# Altium schematic symbol library 元件库原理图.SchLib: 43 symbols
Pins are listed as number, name and electrical type; pins without a type are passive.

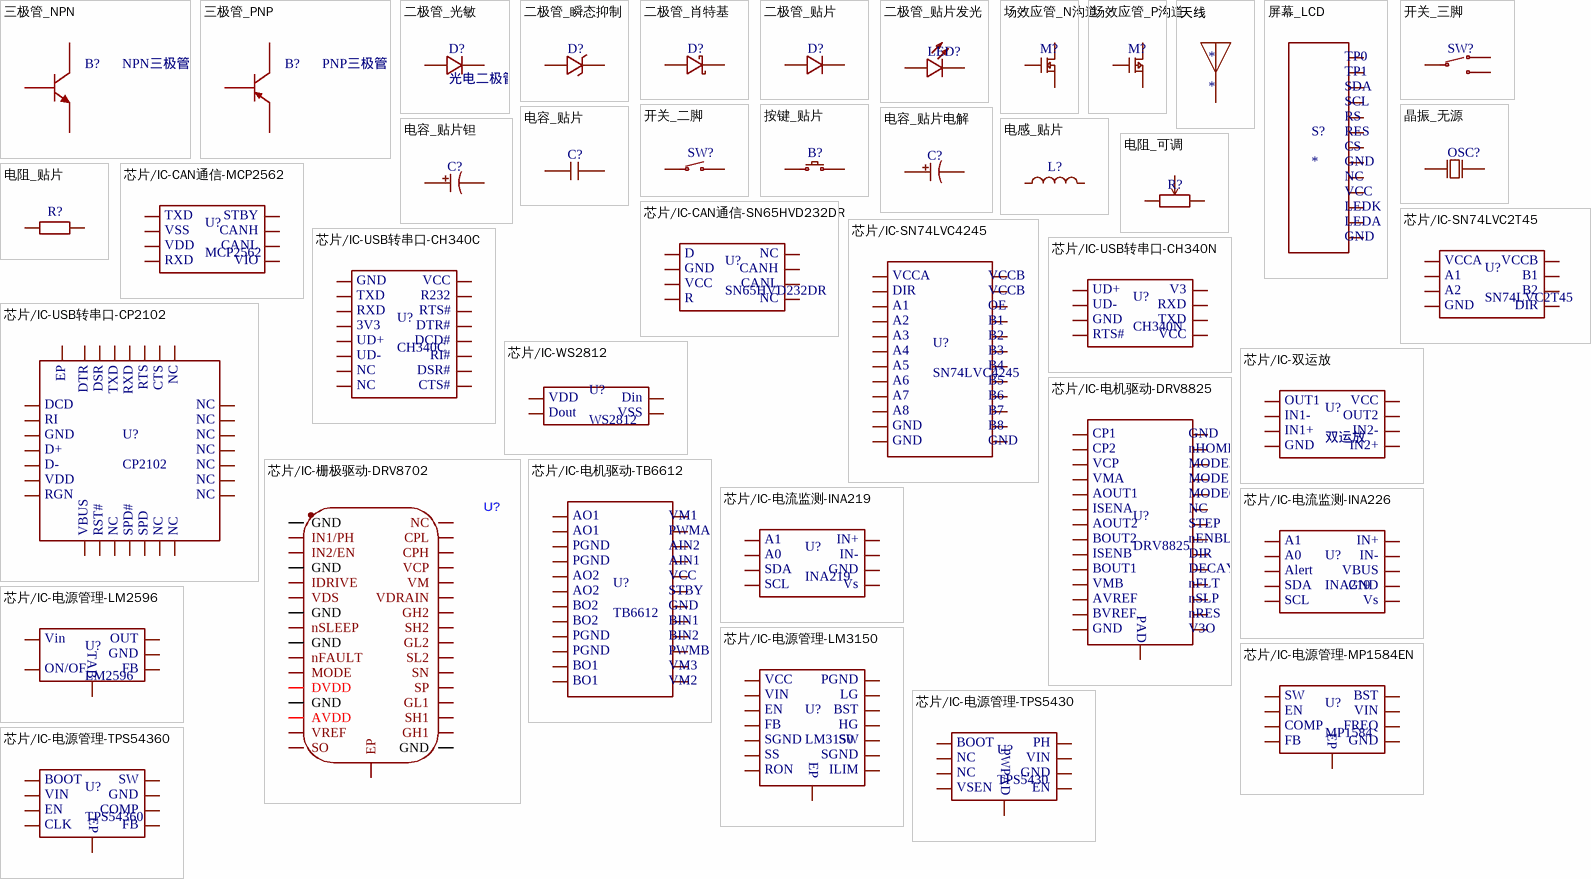
[diagram p0: symbols 三极管_NPN to 芯片/IC-电源管理-TPS54360]

## 三极管_NPN
designator B?, comment NPN三极管
footprint SOT-23
pins: 1 B, 2 E, 3 C

## 三极管_PNP
designator B?, comment PNP三极管
footprint SOT-23
pins: 1 B, 2 E, 3 C

## 二极管_光敏
designator D?, comment 光电二极管
footprint *LED_5mm
footprint *LED_3mm
pins: 1, 2

## 二极管_瞬态抑制
designator D?, comment 瞬态抑制二极管  (value not drawn)
footprint SMA (适用于SS14等肖特基二极管的封装，带横线的一端为负极)
footprint SMB (适用于SS24等肖特基二极管的封装，带横线的一端为负极)
footprint SMC (适用于SS34等肖特基二极管的封装，带横线的一端为负极)
footprint SOD-123 (适用于贴片二级管的SOD123封装，带横线的一端为负极)
footprint SOD-323 (适用于贴片二级管的SOD323封装，带横线的一端为负极)
footprint TO-277
pins: 1, 2

## 二极管_肖特基
designator D?, comment 肖特基二极管  (value not drawn)
footprint SMA (适用于SS14等肖特基二极管的封装，带横线的一端为负极)
footprint SMB (适用于SS24等肖特基二极管的封装，带横线的一端为负极)
footprint SMC (适用于SS34等肖特基二极管的封装，带横线的一端为负极)
footprint SOD-123 (适用于贴片二级管的SOD123封装，带横线的一端为负极)
footprint SOD-323 (适用于贴片二级管的SOD323封装，带横线的一端为负极)
footprint TO-277
pins: 1, 2

## 二极管_贴片
designator D?, comment 二极管  (value not drawn)
footprint SOD-123 (适用于贴片二级管的SOD123封装，带横线的一端为负极)
footprint SOD-323 (适用于贴片二级管的SOD323封装，带横线的一端为负极)
pins: 1, 2

## 二极管_贴片发光
designator LED?, comment LED  (value not drawn)
footprint 1206D (1206封装，LED用)
footprint 0603D (0603封装，LED用)
footprint 0805D (0805封装，LED用)
pins: 1, 2

## 场效应管_N沟道
designator M?, comment NMOS  (value not drawn)
footprint VSON8
pins: 1 Gate, 2 Source, 3 Drain

## 场效应管_P沟道
designator M?, comment PMOS  (value not drawn)
pins: 1 Gate, 2 Source, 3 Drain

## 天线
designator *
footprint *ANT-Rainsun-AN5120
pins: 1

## 屏幕_LCD
designator S?
footprint *LCD_096
pins: 1, 2, 3, 4, 5, 6, 7, 8, 9, 10, 11, 12, 13
text: TP0; TP1; SDA; SCL; RS; RES; CS; GND; NC; VCC; LEDK; LEDA

## 开关_三脚
designator SW?, comment 开关  (value not drawn)
footprint *SW-SS12D07
footprint *SW-1280S
pins: 1, 2, 3

## 开关_二脚
designator SW?, comment 开关  (value not drawn)
footprint *SW-5.08mm (【*专用封装】适用于5mm船型开关)
footprint *SW-7.1mm (【*专用封装】适用于7mm船型开关)
pins: 1, 2

## 按键_贴片
designator B?, comment 按键  (value not drawn)
footprint *Button_3*6
footprint *Button_3*4
footprint *Button_3.5*3.55_W
pins: 1, 2

## 晶振_无源
designator OSC?, comment 晶振  (value not drawn)
footprint OSC_Passive_4P_3225
pins: 1, 2

## 电容_贴片
designator C?, comment 电容  (value not drawn)
footprint 0402C (0402封装，电容用)
footprint 0603C (0603封装，电容用)
footprint 0805C (0805封装，电容用)
pins: 1, 2

## 电容_贴片电解
designator C?, comment 电解电容  (value not drawn)
footprint SVP6.3
pins: 1, 2

## 电容_贴片钽
designator C?, comment 钽电容  (value not drawn)
footprint 3216A/1206 (1206封装，钽电容A型用，缺角为电流流向/负极)
footprint 3528B/1210 (1210封装，钽电容B型用，缺角为电流流向/负极)
pins: 1, 2

## 电感_贴片
designator L?, comment 电感  (value not drawn)
footprint 0402U (通用0402封装)
footprint 0603U (通用0603封装)
footprint 0805U (通用0805封装)
footprint 1040L
footprint 0420L
footprint 0630L
pins: 1, 2

## 电阻_可调
designator R?, comment 电位器  (value not drawn)
footprint *RES-ADJ-TH_3296W (【*专用封装】3296电位器专用封装)
footprint *RES-ADJ-TH_RV09 (【*专用封装】长柄电位器专用非标准封装)
footprint *RES-ADJ-TH_VG039 (【*专用封装】精密电位器专用非标准封装)
footprint *RES-ADJ-TH_3296-PW (锟斤拷*专锟矫凤拷装锟斤拷3296锟斤拷位锟斤拷专锟矫凤拷装)
pins: 1, 2, 3

## 电阻_贴片
designator R?, comment 电阻  (value not drawn)
footprint 0402R (0402封装，电阻用)
footprint 0603R (0603封装，电阻用，缺角为电流流向/负极)
footprint 0805R (0805封装，电阻用)
footprint 1225R
footprint 2512R
pins: 1, 2

## 芯片/IC-CAN通信-MCP2562
designator U?, comment MCP2562
footprint SOP-8 (通锟斤拷SOP8锟斤拷装锟斤拷锟斤拷锟斤拷锟阶诧拷锟斤拷锟斤拷)
pins: 1, 2, 3, 4, 5, 6, 7, 8
text: TXD; STBY; VSS; CANH; VDD; CANL; RXD; VIO

## 芯片/IC-CAN通信-SN65HVD232DR
designator U?, comment SN65HVD232DR
footprint SOP-8 (通锟斤拷SOP8锟斤拷装锟斤拷锟斤拷锟斤拷锟阶诧拷锟斤拷锟斤拷)
pins: 1, 2, 3, 4, 5, 6, 7, 8
text: D; NC; GND; CANH; VCC; CANL; R

## 芯片/IC-SN74LVC2T45
designator U?, comment SN74LVC2T45
footprint VSSOP8
pins: 1, 2, 3, 4, 5, 6, 7, 8
text: VCCA; VCCB; A1; B1; A2; B2; GND; DIR

## 芯片/IC-SN74LVC4245
designator U?, comment SN74LVC4245
footprint TSSOP24
pins: 1, 2, 3, 4, 5, 6, 7, 8, 9, 10, 11, 12, 13, 14, 15, 16, 17, 18, 19, 20, 21, 22, 23, 24
text: VCCA; VCCB; DIR; A1; OE; A2; B1; A3; B2; A4; B3; A5; B4; A6; B5; A7; B6; A8; B7; GND; B8

## 芯片/IC-USB转串口-CH340C
designator U?, comment CH340C
pins: 1, 2, 3, 4, 5, 6, 7, 8, 9, 10, 11, 12, 13, 14, 15, 16
text: GND; VCC; TXD; R232; RXD; RTS#; 3V3; DTR#; UD+; DCD#; UD-; RI#; NC; DSR#; CTS#

## 芯片/IC-USB转串口-CH340N
designator U?, comment CH340N
footprint SOP-8 (通锟斤拷SOP8锟斤拷装锟斤拷锟斤拷锟斤拷锟阶诧拷锟斤拷锟斤拷)
pins: 1, 2, 3, 4, 5, 6, 7, 8
text: UD+; V3; UD-; RXD; GND; TXD; RTS#; VCC

## 芯片/IC-USB转串口-CP2102
designator U?, comment CP2102
footprint WQFN28
pins: 1, 2, 3, 4, 5, 6, 7, 8, 9, 10, 11, 12, 13, 14, 15, 16, 17, 18, 19, 20, 21, 22, 23, 24, 25, 26, 27, 28, 29
text: EP; DTR; DSR; TXD; RXD; RTS; CTS; NC; DCD; RI; GND; D+; D-; VDD; RGN; VBUS; RST#; SPD#; SPD

## 芯片/IC-WS2812
designator U?, comment WS2812
footprint 5050 (5050封装，点为正极，缺角为负极)
footprint 3535
footprint 3535_Tiny
pins: 1, 2, 3, 4
text: VDD; Din; Dout; VSS

## 芯片/IC-双运放
designator U?, comment 双运放
footprint SOP-8 (通锟斤拷SOP8锟斤拷装锟斤拷锟斤拷锟斤拷锟阶诧拷锟斤拷锟斤拷)
pins: 1, 2, 3, 4, 5, 6, 7, 8
text: OUT1; VCC; IN1-; OUT2; IN1+; IN2-; GND; IN2+

## 芯片/IC-栅极驱动-DRV8702
designator U?, comment DRV8702  (value not drawn)
footprint VQFN32
pins: 1 GND, 2 IN1/PH, 3 IN2/EN, 4 GND, 5 IDRIVE, 6 VDS, 7 GND, 8 nSLEEP, 9 GND, 10 nFAULT, 11 MODE, 12 DVDD, 13 GND, 14 AVDD, 15 VREF, 16 SO, 17 GND, 18 GH1, 19 SH1, 20 GL1, 21 SP, 22 SN, 23 SL2, 24 GL2, 25 SH2, 26 GH2, 27 VDRAIN, 28 VM, 29 VCP, 30 CPH, 31 CPL, 32 NC, 33 EP

## 芯片/IC-电机驱动-DRV8825
designator U?, comment DRV8825
footprint HTSSOP28
pins: 1, 2, 3, 4, 5, 6, 7, 8, 9, 10, 11, 12, 13, 14, 15, 16, 17, 18, 19, 20, 21, 22, 23, 24, 25, 26, 27, 28, 29
text: CP1; GND; CP2; nHOME; VCP; MODE2; VMA; MODE1; AOUT1; MODE0; ISENA; NC; AOUT2; STEP; BOUT2; nENBL; ISENB; DIR; BOUT1; DECAY; VMB; nFLT; AVREF; nSLP; BVREF; nRES; PAD; V3O

## 芯片/IC-电机驱动-TB6612
designator U?, comment TB6612
footprint SSOP24
pins: 1, 2, 3, 4, 5, 6, 7, 8, 9, 10, 11, 12, 13, 14, 15, 16, 17, 18, 19, 20, 21, 22, 23, 24
text: AO1; VM1; PWMA; PGND; AIN2; AIN1; AO2; VCC; STBY; BO2; GND; BIN1; BIN2; PWMB; BO1; VM3; VM2

## 芯片/IC-电流监测-INA219
designator U?, comment INA219
footprint SOP-8 (通锟斤拷SOP8不带底部焊盘)
pins: 1, 2, 3, 4, 5, 6, 7, 8
text: A1; IN+; A0; IN-; SDA; GND; SCL; Vs

## 芯片/IC-电流监测-INA226
designator U?, comment INA219
footprint VSSOP10
pins: 1, 2, 3, 4, 5, 6, 7, 8, 9, 10
text: A1; IN+; A0; IN-; Alert; VBUS; SDA; GND; SCL; Vs

## 芯片/IC-电源管理-LM2596
designator U?, comment LM2596
footprint TO-263
pins: 1, 2, 3, 4, 5, 6
text: Vin; OUT; TAB; GND; ON/OF; FB

## 芯片/IC-电源管理-LM3150
designator U?, comment LM3150
footprint TSSOP14
pins: 1, 2, 3, 4, 5, 6, 7, 8 7, 9 7, 10 7, 11 7, 12 7, 13 7, 14 7, 15
text: VCC; PGND; VIN; LG; EN; BST; FB; HG; SGND; SW; SS; EP; RON; ILIM

## 芯片/IC-电源管理-MP1584EN
designator U?, comment MP1584
footprint SOP-8-PP (通用SOP8封装，带底部焊盘)
pins: 1, 2, 3, 4, 5, 6, 7, 8, 9
text: SW; BST; EN; VIN; COMP; FREQ; EP; FB; GND

## 芯片/IC-电源管理-TPS5430
designator U?, comment TPS5430
footprint SOP-8-PP (通用SOP8封装，带底部焊盘)
pins: 1, 2, 3, 4, 5, 6, 7, 8, 9
text: BOOT; PH; NC; VIN; PWPAD; GND; VSEN; EN

## 芯片/IC-电源管理-TPS54360
designator U?, comment TPS54360
footprint SOP-8-PP (通用SOP8封装，带底部焊盘)
pins: 1, 2, 3, 4, 5, 6, 7, 8, 9
text: BOOT; SW; VIN; GND; EN; COMP; EP; CLK; FB

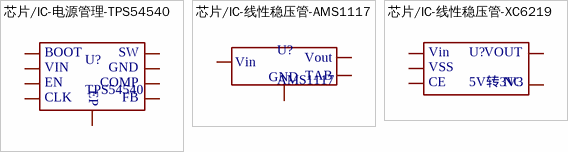
[diagram p1: symbols 芯片/IC-电源管理-TPS54540 to 芯片/IC-线性稳压管-XC6219]

## 芯片/IC-电源管理-TPS54540
designator U?, comment TPS54540
footprint SOP-8-PP (通用SOP8封装，带底部焊盘)
pins: 1, 2, 3, 4, 5, 6, 7, 8, 9
text: BOOT; SW; VIN; GND; EN; COMP; EP; CLK; FB

## 芯片/IC-线性稳压管-AMS1117
designator U?, comment AMS1117
footprint SOT-223
pins: 1, 2, 3, 4
text: Vin; Vout; GND; TAB

## 芯片/IC-线性稳压管-XC6219
designator U?, comment 5V转3V3
footprint SOT-25
pins: 1, 2, 3, 5, 5
text: Vin; VOUT; VSS; CE; NC